# EAGLE library part VS1005 (library vlsi-web-e7)
Multiformat Audio SOC Player IC with USB and NAND FLASH Interface.
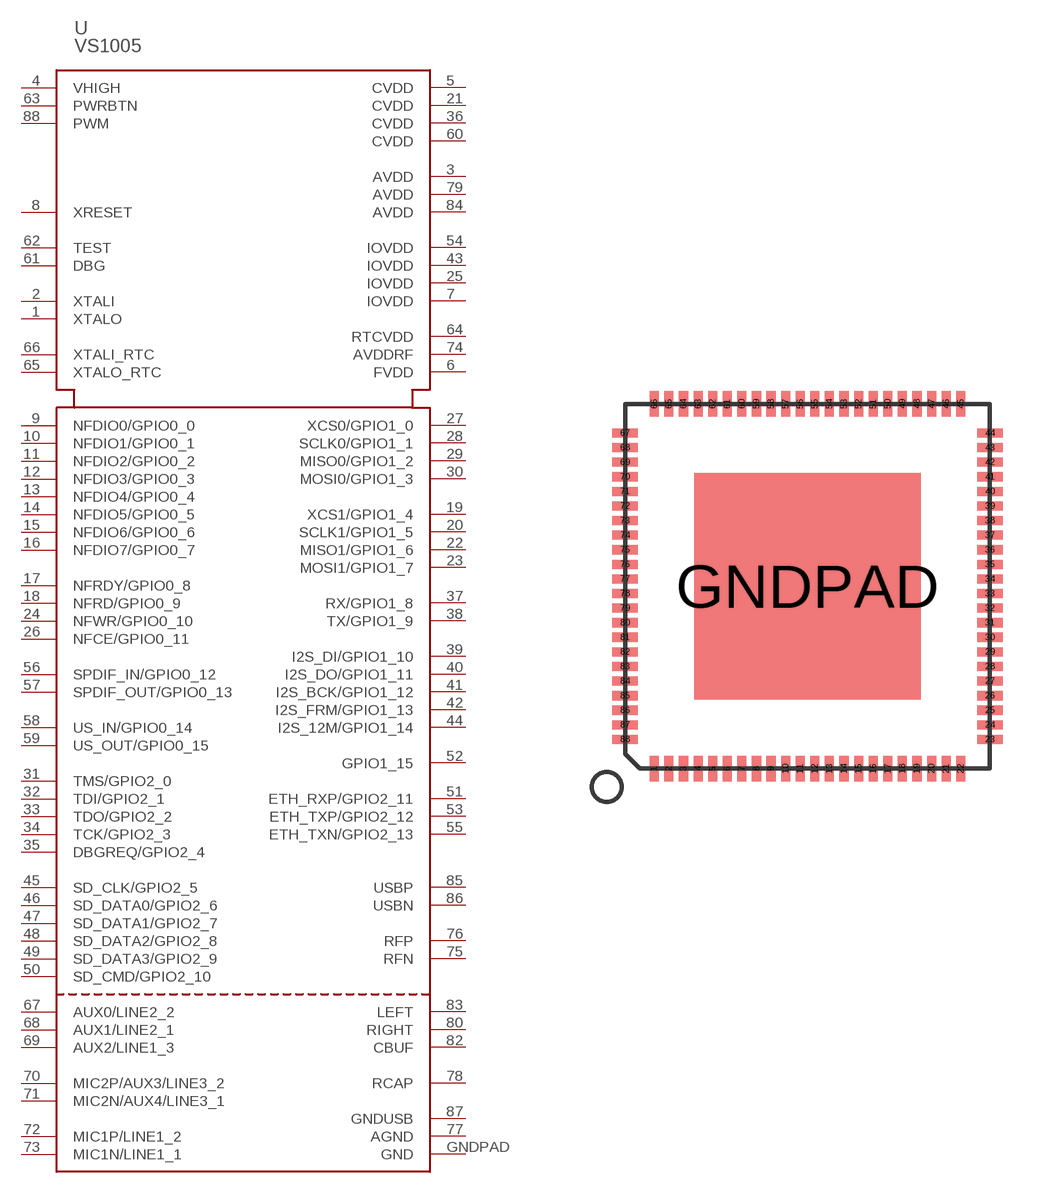
[diagram p5: symbol with the pads of LFGA-88; footprint LFGA-88]

Designator prefix U

## VS1005  [LFGA-88]
1  XTALO  pas
2  XTALI  pas
3  AVDD  sup
4  VHIGH
5  CVDD  sup
6  FVDD  sup
7  IOVDD  sup
8  XRESET  in
9  NFDIO0/GPIO0_0
10  NFDIO1/GPIO0_1
11  NFDIO2/GPIO0_2
12  NFDIO3/GPIO0_3
13  NFDIO4/GPIO0_4
14  NFDIO5/GPIO0_5
15  NFDIO6/GPIO0_6
16  NFDIO7/GPIO0_7
17  NFRDY/GPIO0_8
18  NFRD/GPIO0_9
19  XCS1/GPIO1_4
20  SCLK1/GPIO1_5
21  CVDD  sup
22  MISO1/GPIO1_6
23  MOSI1/GPIO1_7
24  NFWR/GPIO0_10
25  IOVDD  sup
26  NFCE/GPIO0_11
27  XCS0/GPIO1_0
28  SCLK0/GPIO1_1
29  MISO0/GPIO1_2
30  MOSI0/GPIO1_3
31  TMS/GPIO2_0
32  TDI/GPIO2_1
33  TDO/GPIO2_2
34  TCK/GPIO2_3
35  DBGREQ/GPIO2_4
36  CVDD  sup
37  RX/GPIO1_8
38  TX/GPIO1_9
39  I2S_DI/GPIO1_10
40  I2S_DO/GPIO1_11
41  I2S_BCK/GPIO1_12
42  I2S_FRM/GPIO1_13
43  IOVDD  sup
44  I2S_12M/GPIO1_14
45  SD_CLK/GPIO2_5
46  SD_DATA0/GPIO2_6
47  SD_DATA1/GPIO2_7
48  SD_DATA2/GPIO2_8
49  SD_DATA3/GPIO2_9
50  SD_CMD/GPIO2_10
51  ETH_RXP/GPIO2_11
52  GPIO1_15
53  ETH_TXP/GPIO2_12
54  IOVDD  sup
55  ETH_TXN/GPIO2_13
56  SPDIF_IN/GPIO0_12
57  SPDIF_OUT/GPIO0_13
58  US_IN/GPIO0_14
59  US_OUT/GPIO0_15
60  CVDD  sup
61  DBG  in
62  TEST  in
63  PWRBTN  in
64  RTCVDD  sup
65  XTALO_RTC  pas
66  XTALI_RTC  pas
67  AUX0/LINE2_2  pas
68  AUX1/LINE2_1  pas
69  AUX2/LINE1_3  pas
70  MIC2P/AUX3/LINE3_2  pas
71  MIC2N/AUX4/LINE3_1  pas
72  MIC1P/LINE1_2  pas
73  MIC1N/LINE1_1  pas
74  AVDDRF  sup
75  RFN
76  RFP
77  AGND  sup
78  RCAP  pas
79  AVDD  sup
80  RIGHT  pas
82  CBUF  pas
83  LEFT  pas
84  AVDD  sup
85  USBP
86  USBN
87  GNDUSB  sup
88  PWM
GNDPAD  GND  sup

## Footprint LFGA-88 (pad centres in mm)
LFGA88 with 6.2mm center pad Notice! Center pad MUST be connected to GND with multiple vias.
smd 0.25 x 0.7: 1 0.8,0; 2 1.2,0; 3 1.6,0; 4 2,0; 5 2.4,0; 6 2.8,0; 7 3.2,0; 8 3.6,0; 9 4,0; 10 4.4,0; 11 4.8,0; 12 5.2,0; 13 5.6,0; 14 6,0; 15 6.4,0; 16 6.8,0; 17 7.2,0; 18 7.6,0; 19 8,0; 20 8.4,0; 21 8.8,0; 22 9.2,0; 45 9.2,10; 46 8.8,10; 47 8.4,10; 48 8,10; 49 7.6,10; 50 7.2,10; 51 6.8,10; 52 6.4,10; 53 6,10; 54 5.6,10; 55 5.2,10; 56 4.8,10; 57 4.4,10; 58 4,10; 59 3.6,10; 60 3.2,10; 61 2.8,10; 62 2.4,10; 63 2,10; 64 1.6,10; 65 1.2,10; 66 0.8,10
smd 0.7 x 0.25: 23 10,0.8; 24 10,1.2; 25 10,1.6; 26 10,2; 27 10,2.4; 28 10,2.8; 29 10,3.2; 30 10,3.6; 31 10,4; 32 10,4.4; 33 10,4.8; 34 10,5.2; 35 10,5.6; 36 10,6; 37 10,6.4; 38 10,6.8; 39 10,7.2; 40 10,7.6; 41 10,8; 42 10,8.4; 43 10,8.8; 44 10,9.2; 67 0,9.2; 68 0,8.8; 69 0,8.4; 70 0,8; 71 0,7.6; 72 0,7.2; 73 0,6.8; 74 0,6.4; 75 0,6; 76 0,5.6; 77 0,5.2; 78 0,4.8; 79 0,4.4; 80 0,4; 81 0,3.6; 82 0,3.2; 83 0,2.8; 84 0,2.4; 85 0,2; 86 0,1.6; 87 0,1.2; 88 0,0.8
smd 6.2 x 6.2: GNDPAD 5,5